# EAGLE library part S25FL064LABNFI041 (library S25FL064LABNFI041)
Cypress Semiconductor S25FL064LABNFI041 NOR 64Mbit Flash Memory Chip, 8-Pin USON Source: Datasheet <https://componentsearchengine.com/Datasheets/1/S25FL064LABNFI041.pdf>
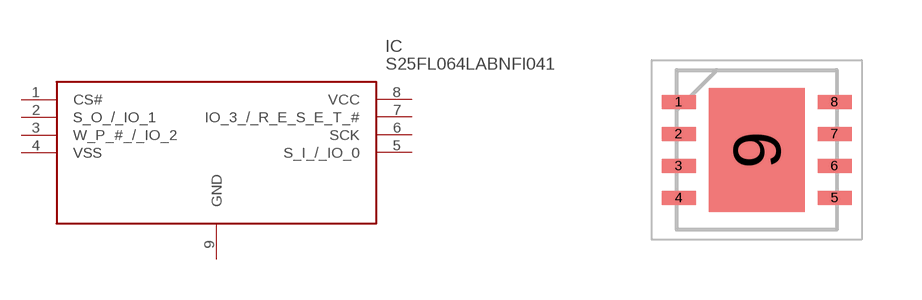
[diagram p0: symbol with the pads of SON80P400X400X60-9N; footprint SON80P400X400X60-9N]

Designator prefix IC

## S25FL064LABNFI041 (Description: Cypress Semiconductor S25FL064LABNFI041 NOR 64Mbit Flash Memory Chip, 8-Pin USON; Height: 0.6mm; Manufacturer_Name: Cypress Semiconductor; Manufacturer_Part_Number: S25FL064LABNFI041; Mouser_Part_Number: 727-S25FL064LANFI041; Mouser_Price-Stock: https://www.mouser.com/Search/Refine.aspx?Keyword=727-S25FL064LANFI041)  [SON80P400X400X60-9N]
1  CS#
2  S_O_/_IO_1
3  W_P_#_/_IO_2
4  VSS
5  S_I_/_IO_0
6  SCK
7  IO_3_/_R_E_S_E_T_#
8  VCC
9  GND

## Footprint SON80P400X400X60-9N (pad centres in mm)
S25FL064LABNFI041
smd 0.85 x 0.35: 1 -1.95,1.2; 2 -1.95,0.4; 3 -1.95,-0.4; 4 -1.95,-1.2; 5 1.95,-1.2; 6 1.95,-0.4; 7 1.95,0.4; 8 1.95,1.2
smd 2.4 x 3.1: 9 0,0